# Altium schematic symbol library Analog_ADC.SchLib: 158 symbols (part 1 of 3)
Pins are listed as number, name and electrical type; pins without a type are passive.

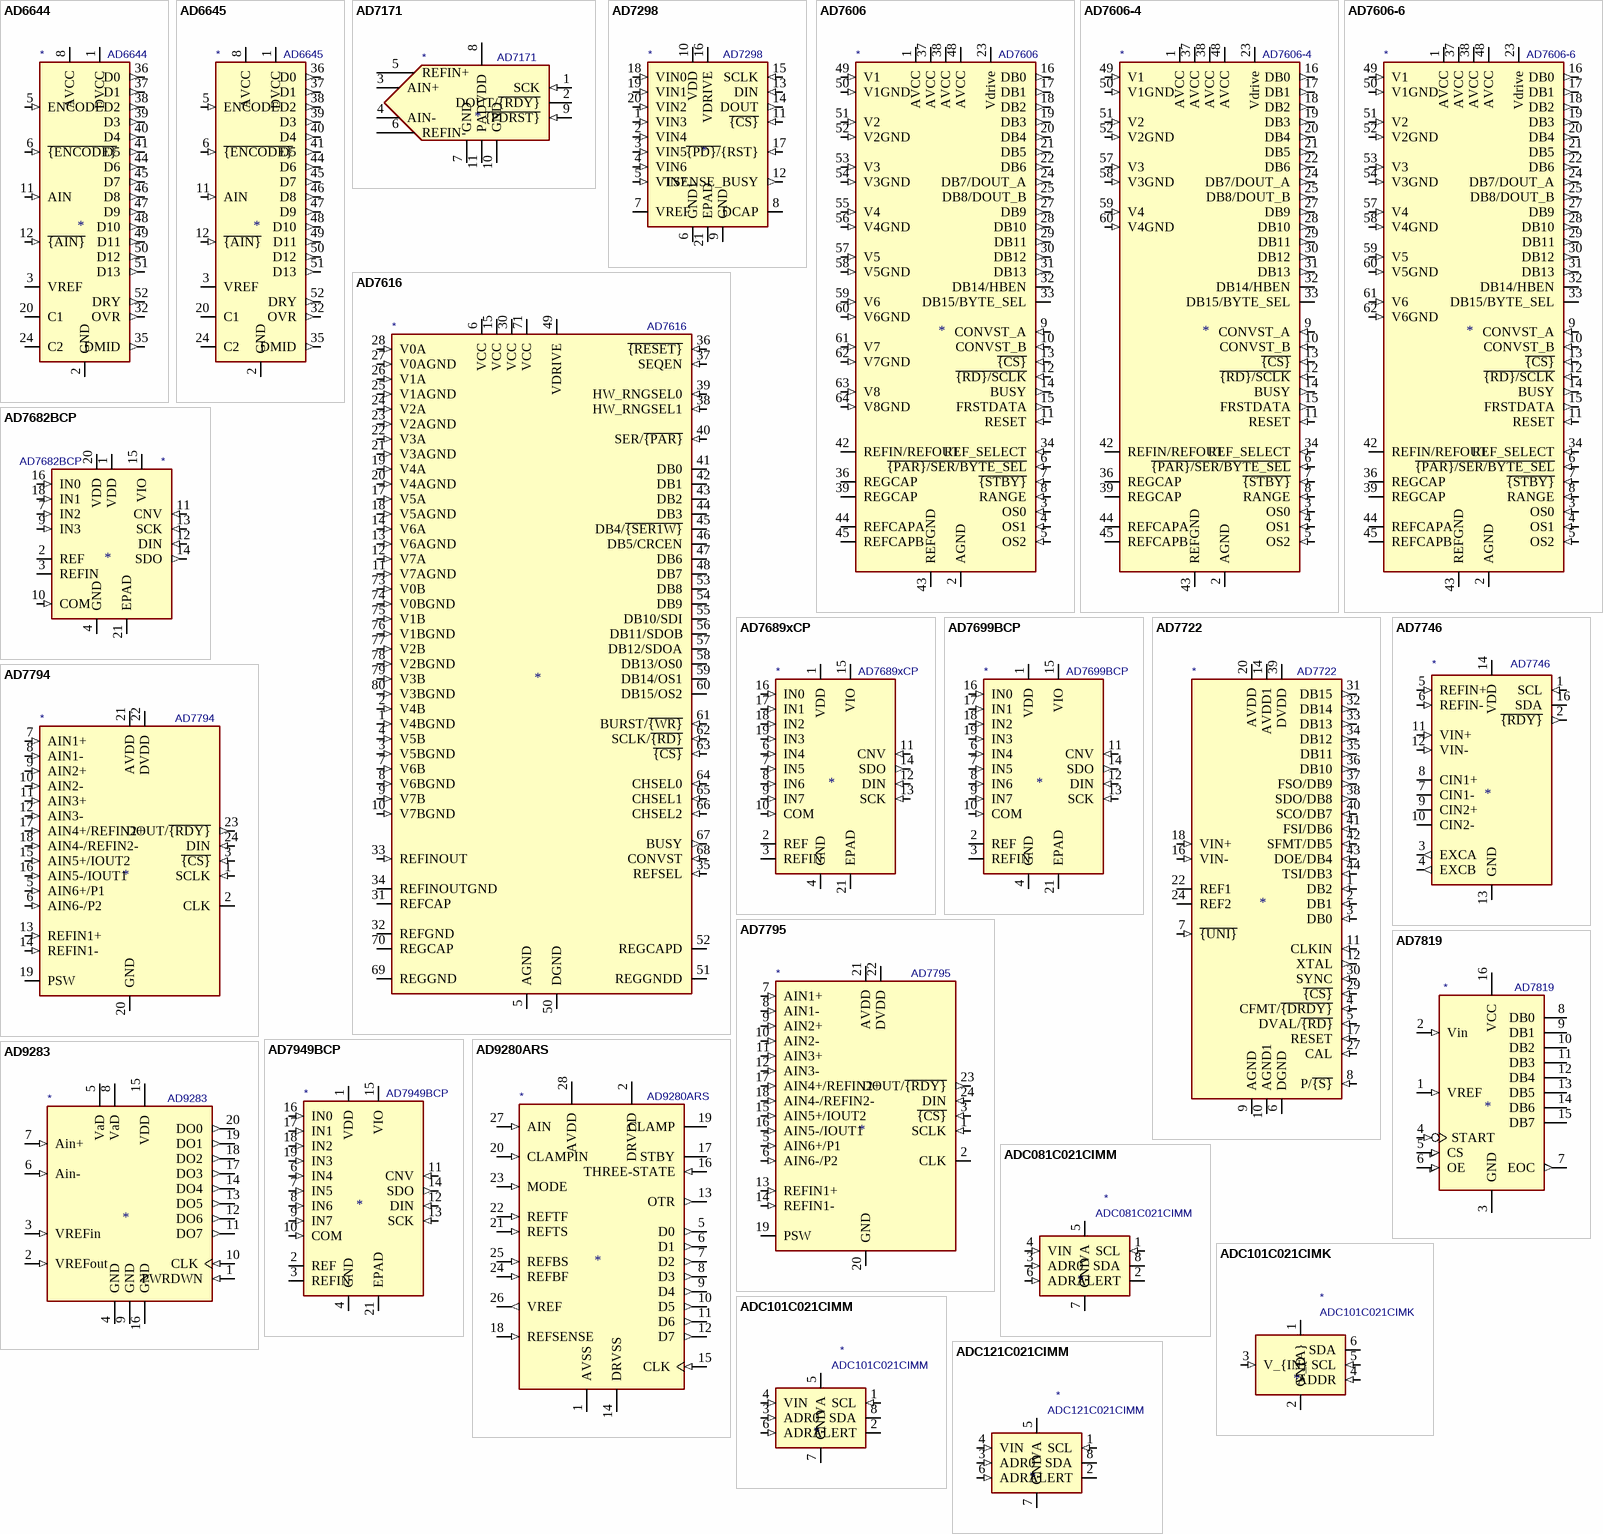
[diagram p0: symbols AD6644 to ADC121C021CIMM]

## AD6644
designator *  value AD6644
ki_keywords: ADC differential analog digital converter; ki_description: A/D Converter, 14-Bit, 40 MSPS/65 MSPS, TQFP-52; ki_fp_filters: TQFP*1EP*10x10mm*P0.65mm*; Footprint: Package_QFP:TQFP-52-1EP_10x10mm_P0.65mm_EP6.5x6.5mm; Supplier: https://www.analog.com/media/en/technical-documentation/data-sheets/AD6644.pdf
footprint TQFP-52-1EP_10x10mm_P0.65mm_EP6.5x6.5mm
pins: 1 DVCC (power), 2 GND (power), 3 VREF, 4 GND hidden, 5 ENCODE (in), 6 ~{{ENCODE}} (in), 7 GND hidden, 8 AVCC (power), 9 AVCC hidden, 10 GND hidden, 11 AIN (in), 12 ~{{AIN}} (in), 13 GND hidden, 14 AVCC hidden, 15 GND hidden, 16 AVCC hidden, 17 GND hidden, 18 AVCC hidden, 19 GND hidden, 20 C1, 21 GND hidden, 22 AVCC hidden, 23 GND hidden, 24 C2, 25 GND hidden, 26 AVCC hidden, 27 GND hidden, 28 AVCC hidden, 29 GND hidden, 30 AVCC hidden, 31 DNC (in) hidden, 32 OVR (out), 33 DVCC hidden, 34 GND hidden, 35 DMID (out), 36 D0 (out), 37 D1 (out), 38 D2 (out), 39 D3 (out), 40 D4 (out), 41 D5 (out), 42 GND hidden, 43 DVCC hidden, 44 D6 (out), 45 D7 (out), 46 D8 (out), 47 D9 (out), 48 D10 (out), 49 D11 (out), 50 D12 (out), 51 D13 (out), 52 DRY (out), 53 GND hidden

## AD6645
designator *  value AD6645
ki_keywords: ADC differential analog digital converter; ki_description: A/D Converter, 14-Bit, 80 MSPS/105 MSPS, TQFP-52; ki_fp_filters: TQFP*1EP*10x10mm*P0.65mm*; Footprint: Package_QFP:TQFP-52-1EP_10x10mm_P0.65mm_EP6.5x6.5mm; Supplier: https://www.analog.com/media/en/technical-documentation/data-sheets/AD6645.pdf
footprint TQFP-52-1EP_10x10mm_P0.65mm_EP6.5x6.5mm
pins: 1 DVCC (power), 2 GND (power), 3 VREF, 4 GND hidden, 5 ENCODE (in), 6 ~{{ENCODE}} (in), 7 GND hidden, 8 AVCC (power), 9 AVCC hidden, 10 GND hidden, 11 AIN (in), 12 ~{{AIN}} (in), 13 GND hidden, 14 AVCC hidden, 15 GND hidden, 16 AVCC hidden, 17 GND hidden, 18 AVCC hidden, 19 GND hidden, 20 C1, 21 GND hidden, 22 AVCC hidden, 23 GND hidden, 24 C2, 25 GND hidden, 26 AVCC hidden, 27 GND hidden, 28 AVCC hidden, 29 GND hidden, 30 AVCC hidden, 31 DNC (in) hidden, 32 OVR (out), 33 DVCC hidden, 34 GND hidden, 35 DMID (out), 36 D0 (out), 37 D1 (out), 38 D2 (out), 39 D3 (out), 40 D4 (out), 41 D5 (out), 42 GND hidden, 43 DVCC hidden, 44 D6 (out), 45 D7 (out), 46 D8 (out), 47 D9 (out), 48 D10 (out), 49 D11 (out), 50 D12 (out), 51 D13 (out), 52 DRY (out), 53 GND hidden

## AD7171
designator *  value AD7171
ki_keywords: sigma delta adc spi 1ch; ki_description: Single channel Analog to Digital Converter, 16-bit, differential input, 125Hz, SPI interface; ki_fp_filters: DFN*1EP*3x3mm*P0.5mm*EP1.55x2.48mm*; Footprint: Package_DFN_QFN:DFN-10-1EP_3x3mm_P0.5mm_EP1.55x2.48mm; Supplier: https://www.analog.com/media/en/technical-documentation/data-sheets/AD7171.pdf
footprint DFN-10-1EP_3x3mm_P0.5mm_EP1.55x2.48mm
pins: 1 SCK (in), 2 DOUT/~{{RDY}} (hiz), 3 AIN+, 4 AIN-, 5 REFIN+, 6 REFIN-, 7 GND (power), 8 VDD (power), 9 ~{{PDRST}} (in), 10 GND (power), 11 PAD (power)

## AD7298
designator *  value AD7298
ki_keywords: ADC, 3.3V, SPI; ki_description: 8 channel, 1MSPS, 12-bit SAR ADC with Temperature Sensor, LFCSP-20; ki_fp_filters: LFCSP*1EP*4x4mm*P0.5mm*; Footprint: Package_CSP:LFCSP-20-1EP_4x4mm_P0.5mm_EP2.6x2.6mm_ThermalVias; Supplier: https://www.analog.com/media/en/technical-documentation/data-sheets/AD7298.pdf
footprint LFCSP-20-1EP_4x4mm_P0.5mm_EP2.6x2.6mm_ThermalVias
pins: 1 VIN3 (in), 2 VIN4 (in), 3 VIN5 (in), 4 VIN6 (in), 5 VIN7 (in), 6 GND1 (power), 7 VREF, 8 DCAP, 9 GND (power), 10 VDD (power), 11 ~{{CS}} (in), 12 TSENSE_BUSY (out), 13 DIN (in), 14 DOUT (out), 15 SCLK (in), 16 VDRIVE (power), 17 ~{{PD}/}{RST} (in), 18 VIN0 (in), 19 VIN1 (in), 20 VIN2 (in), 21 EPAD (power)

## AD7606
designator *  value AD7606
ki_keywords: 16bit DAS ADC 8channel 200KSPS; ki_description: 8-Channel DAS with 16-Bit, Bipolar Input, Simultaneous Sampling ADC, LQFP-64; ki_fp_filters: LQFP*10x10mm*P0.5mm*; Footprint: Package_QFP:LQFP-64_10x10mm_P0.5mm; Supplier: https://www.analog.com/media/en/technical-documentation/data-sheets/ad7606_7606-6_7606-4.pdf
footprint LQFP-64_10x10mm_P0.5mm
pins: 1 AVCC (power), 2 AGND (power), 3 OS0 (in), 4 OS1 (in), 5 OS2 (in), 6 ~{{PAR}/SER/BYTE_SEL} (in), 7 ~{{STBY}} (in), 8 RANGE (in), 9 CONVST_A (in), 10 CONVST_B (in), 11 RESET (in), 12 ~{{RD}/SCLK} (in), 13 ~{{CS}} (in), 14 BUSY (out), 15 FRSTDATA (out), 16 DB0 (out), 17 DB1 (out), 18 DB2 (out), 19 DB3 (out), 20 DB4 (out), 21 DB5 (out), 22 DB6 (out), 23 Vdrive (power), 24 DB7/DOUT_A (out), 25 DB8/DOUT_B (out), 26 AGND hidden, 27 DB9 (out), 28 DB10 (out), 29 DB11 (out), 30 DB12 (out), 31 DB13 (out), 32 DB14/HBEN (io), 33 DB15/BYTE_SEL (io), 34 REF_SELECT (in), 35 AGND hidden, 36 REGCAP, 37 AVCC (power), 38 AVCC (power), 39 REGCAP, 40 AGND hidden, 41 AGND hidden, 42 REFIN/REFOUT, 43 REFGND (power), 44 REFCAPA, 45 REFCAPB, 46 REFGND hidden, 47 AGND hidden, 48 AVCC (power), 49 V1 (in), 50 V1GND (in), 51 V2 (in), 52 V2GND (in), 53 V3 (in), 54 V3GND (in), 55 V4 (in), 56 V4GND (in), 57 V5 (in), 58 V5GND (in), 59 V6 (in), 60 V6GND (in), 61 V7 (in), 62 V7GND (in), 63 V8 (in), 64 V8GND (in)

## AD7606-4
designator *  value AD7606-4
ki_keywords: 16bit DAS ADC 4channel 200KSPS; ki_description: 4-Channel DAS with 16-Bit, Bipolar Input, Simultaneous Sampling ADC, LQFP-64; ki_fp_filters: LQFP*10x10mm*P0.5mm*; Footprint: Package_QFP:LQFP-64_10x10mm_P0.5mm; Supplier: https://www.analog.com/media/en/technical-documentation/data-sheets/ad7606_7606-6_7606-4.pdf
footprint LQFP-64_10x10mm_P0.5mm
pins: 1 AVCC (power), 2 AGND (power), 3 OS0 (in), 4 OS1 (in), 5 OS2 (in), 6 ~{{PAR}/SER/BYTE_SEL} (in), 7 ~{{STBY}} (in), 8 RANGE (in), 9 CONVST_A (in), 10 CONVST_B (in), 11 RESET (in), 12 ~{{RD}/SCLK} (in), 13 ~{{CS}} (in), 14 BUSY (out), 15 FRSTDATA (out), 16 DB0 (out), 17 DB1 (out), 18 DB2 (out), 19 DB3 (out), 20 DB4 (out), 21 DB5 (out), 22 DB6 (out), 23 Vdrive (power), 24 DB7/DOUT_A (out), 25 DB8/DOUT_B (out), 26 AGND hidden, 27 DB9 (out), 28 DB10 (out), 29 DB11 (out), 30 DB12 (out), 31 DB13 (out), 32 DB14/HBEN (io), 33 DB15/BYTE_SEL (io), 34 REF_SELECT (in), 35 AGND hidden, 36 REGCAP, 37 AVCC (power), 38 AVCC (power), 39 REGCAP, 40 AGND hidden, 41 AGND hidden, 42 REFIN/REFOUT, 43 REFGND (power), 44 REFCAPA, 45 REFCAPB, 46 REFGND hidden, 47 AGND hidden, 48 AVCC (power), 49 V1 (in), 50 V1GND (in), 51 V2 (in), 52 V2GND (in), 53 AGND hidden, 54 AGND hidden, 55 AGND hidden, 56 AGND hidden, 57 V3 (in), 58 V3GND (in), 59 V4 (in), 60 V4GND (in), 61 AGND hidden, 62 AGND hidden, 63 AGND hidden, 64 AGND hidden

## AD7606-6
designator *  value AD7606-6
ki_keywords: 16bit DAS ADC 6channel 200KSPS; ki_description: 6-Channel DAS with 16-Bit, Bipolar Input, Simultaneous Sampling ADC, LQFP-64; ki_fp_filters: LQFP*10x10mm*P0.5mm*; Footprint: Package_QFP:LQFP-64_10x10mm_P0.5mm; Supplier: https://www.analog.com/media/en/technical-documentation/data-sheets/ad7606_7606-6_7606-4.pdf
footprint LQFP-64_10x10mm_P0.5mm
pins: 1 AVCC (power), 2 AGND (power), 3 OS0 (in), 4 OS1 (in), 5 OS2 (in), 6 ~{{PAR}/SER/BYTE_SEL} (in), 7 ~{{STBY}} (in), 8 RANGE (in), 9 CONVST_A (in), 10 CONVST_B (in), 11 RESET (in), 12 ~{{RD}/SCLK} (in), 13 ~{{CS}} (in), 14 BUSY (out), 15 FRSTDATA (out), 16 DB0 (out), 17 DB1 (out), 18 DB2 (out), 19 DB3 (out), 20 DB4 (out), 21 DB5 (out), 22 DB6 (out), 23 Vdrive (power), 24 DB7/DOUT_A (out), 25 DB8/DOUT_B (out), 26 AGND hidden, 27 DB9 (out), 28 DB10 (out), 29 DB11 (out), 30 DB12 (out), 31 DB13 (out), 32 DB14/HBEN (io), 33 DB15/BYTE_SEL (io), 34 REF_SELECT (in), 35 AGND hidden, 36 REGCAP, 37 AVCC (power), 38 AVCC (power), 39 REGCAP, 40 AGND hidden, 41 AGND hidden, 42 REFIN/REFOUT, 43 REFGND (power), 44 REFCAPA, 45 REFCAPB, 46 REFGND hidden, 47 AGND hidden, 48 AVCC (power), 49 V1 (in), 50 V1GND (in), 51 V2 (in), 52 V2GND (in), 53 V3 (in), 54 V3GND (in), 55 AGND hidden, 56 AGND hidden, 57 V4 (in), 58 V4GND (in), 59 V5 (in), 60 V5GND (in), 61 V6 (in), 62 V6GND (in), 63 AGND hidden, 64 AGND hidden

## AD7616
designator *  value AD7616
ki_keywords: 16bit DAS ADC 16channel 1MSPS; ki_description: 16-Channel DAS with 16-Bit, Bipolar Input, Dual Simultaneous Sampling ADC, 2x1MSPS ADC, Serial and parallel IO, LQFP-80; ki_fp_filters: LQFP*14x14mm*P0.65mm*; Footprint: Package_QFP:LQFP-80_14x14mm_P0.65mm; Supplier: https://www.analog.com/media/en/technical-documentation/data-sheets/AD7616.pdf
footprint LQFP-80_14x14mm_P0.65mm
pins: 1 V4BGND (in), 2 V4B (in), 3 V5BGND (in), 4 V5B (in), 5 AGND (power), 6 VCC (power), 7 V6B (in), 8 V6BGND (in), 9 V7B (in), 10 V7BGND (in), 11 V7AGND (in), 12 V7A (in), 13 V6AGND (in), 14 V6A (in), 15 VCC (power), 16 AGND hidden, 17 V5A (in), 18 V5AGND (in), 19 V4A (in), 20 V4AGND (in), 21 V3AGND (in), 22 V3A (in), 23 V2AGND (in), 24 V2A (in), 25 V1AGND (in), 26 V1A (in), 27 V0AGND (in), 28 V0A (in), 29 AGND hidden, 30 VCC (power), 31 REFCAP, 32 REFGND (power), 33 REFINOUT (in), 34 REFINOUTGND (power), 35 REFSEL (in), 36 ~{{RESET}} (in), 37 SEQEN (in), 38 HW_RNGSEL1 (in), 39 HW_RNGSEL0 (in), 40 SER/~{{PAR}} (in), 41 DB0 (io), 42 DB1 (io), 43 DB2 (io), 44 DB3 (io), 45 DB4/~{{SER1W}} (io), 46 DB5/CRCEN (io), 47 DB6 (io), 48 DB7 (io), 49 VDRIVE (power), 50 DGND (power), 51 REGGNDD (power), 52 REGCAPD, 53 DB8 (io), 54 DB9 (io), 55 DB10/SDI (io), 56 DB11/SDOB (io), 57 DB12/SDOA (io), 58 DB13/OS0 (io), 59 DB14/OS1 (io), 60 DB15/OS2 (io), 61 BURST/~{{WR}} (in), 62 SCLK/~{{RD}} (in), 63 ~{{CS}} (in), 64 CHSEL0 (in), 65 CHSEL1 (in), 66 CHSEL2 (in), 67 BUSY (out), 68 CONVST (in), 69 REGGND (power), 70 REGCAP, 71 VCC (power), 72 AGND hidden, 73 V0B (in), 74 V0BGND (in), 75 V1B (in), 76 V1BGND (in), 77 V2B (in), 78 V2BGND (in), 79 V3B (in), 80 V3BGND (in)

## AD7682BCP
designator *  value AD7682BCP
ki_keywords: 16-Bit 4-Channel 250kSPS; ki_description: 16-bit, 4-Channel, 250kSPS, PulSAR ADC, Bipolar-Unipolar, LFCSP-20; ki_fp_filters: LFCSP*1EP*4x4mm*P0.5mm*; Footprint: Package_CSP:LFCSP-20-1EP_4x4mm_P0.5mm_EP2.5x2.5mm; Supplier: https://www.analog.com/media/en/technical-documentation/data-sheets/AD7682_7689.pdf
footprint LFCSP-20-1EP_4x4mm_P0.5mm_EP2.5x2.5mm
pins: 1 VDD (power), 2 REF, 3 REFIN, 4 GND (power), 5 GND hidden, 6 NC (in) hidden, 7 IN2 (in), 8 NC (in) hidden, 9 IN3 (in), 10 COM (in), 11 CNV (in), 12 DIN (in), 13 SCK (in), 14 SDO (out), 15 VIO (power), 16 IN0 (in), 17 NC (in) hidden, 18 IN1 (in), 19 NC (in) hidden, 20 VDD (power), 21 EPAD

## AD7689xCP
designator *  value AD7689xCP
ki_keywords: ADC, SPI; ki_description: 16-Bit, 8-Channel, 250 kSPS PulSAR ADC, LFSCP-20; ki_fp_filters: LFCSP*1EP*4x4mm*P0.5mm*; Footprint: Package_CSP:LFCSP-20-1EP_4x4mm_P0.5mm_EP2.5x2.5mm; Supplier: https://www.analog.com/media/en/technical-documentation/data-sheets/AD7682_7689.pdf
footprint LFCSP-20-1EP_4x4mm_P0.5mm_EP2.5x2.5mm
pins: 1 VDD (power), 2 REF, 3 REFIN, 4 GND (power), 5 GND hidden, 6 IN4 (in), 7 IN5 (in), 8 IN6 (in), 9 IN7 (in), 10 COM (in), 11 CNV (in), 12 DIN (in), 13 SCK (in), 14 SDO (out), 15 VIO (power), 16 IN0 (in), 17 IN1 (in), 18 IN2 (in), 19 IN3 (in), 20 VDD hidden, 21 EPAD (power)

## AD7699BCP
designator *  value AD7699BCP
ki_keywords: ADC, SPI; ki_description: 16-Bit, 8-Channel, 500 kSPS PulSAR ADC, LFSCP-20; ki_fp_filters: LFCSP*1EP*4x4mm*P0.5mm*; Footprint: Package_CSP:LFCSP-20-1EP_4x4mm_P0.5mm_EP2.5x2.5mm; Supplier: https://www.analog.com/media/en/technical-documentation/data-sheets/AD7699.pdf
footprint LFCSP-20-1EP_4x4mm_P0.5mm_EP2.5x2.5mm
pins: 1 VDD (power), 2 REF, 3 REFIN, 4 GND (power), 5 GND hidden, 6 IN4 (in), 7 IN5 (in), 8 IN6 (in), 9 IN7 (in), 10 COM (in), 11 CNV (in), 12 DIN (in), 13 SCK (in), 14 SDO (out), 15 VIO (power), 16 IN0 (in), 17 IN1 (in), 18 IN2 (in), 19 IN3 (in), 20 VDD hidden, 21 EPAD (power)

## AD7722
designator *  value AD7722
ki_keywords: adc 1ch 16bit parallel serial; ki_description: 16-Bit, 195 kSPS CMOS, Sigma-Delta ADC, MQFP-44; ki_fp_filters: MQFP*10x10mm*P0.8mm*; Footprint: Package_QFP:MQFP-44_10x10mm_P0.8mm; Supplier: https://www.analog.com/media/en/technical-documentation/data-sheets/AD7722.pdf
footprint MQFP-44_10x10mm_P0.8mm
pins: 1 DB2 (in), 2 DB1 (in), 3 DB0 (in), 4 CFMT/~{{DRDY}} (in), 5 DVAL/~{{RD}} (in), 6 DGND (power), 7 ~{{UNI}} (in), 8 P/~{{S}} (in), 9 AGND (power), 10 AGND1 (power), 11 CLKIN (in), 12 XTAL (out), 13 AGND hidden, 14 AVDD1 (power), 15 AGND hidden, 16 VIN- (in), 17 RESET (in), 18 VIN+ (in), 19 AGND hidden, 20 AVDD (power), 21 AGND hidden, 22 REF1 (power), 23 AVDD hidden, 24 REF2 (power), 25 AGND hidden, 26 AGND hidden, 27 CAL (in), 28 DGND hidden, 29 ~{{CS}} (in), 30 SYNC (in), 31 DB15 (out), 32 DB14 (out), 33 DB13 (out), 34 DB12 (out), 35 DB11 (out), 36 DB10 (out), 37 FSO/DB9 (out), 38 SDO/DB8 (out), 39 DVDD (power), 40 SCO/DB7 (in), 41 FSI/DB6 (in), 42 SFMT/DB5 (in), 43 DOE/DB4 (in), 44 TSI/DB3 (in)

## AD7746
designator *  value AD7746
ki_keywords: adc cdc capacitance; ki_description: 24-bit capacitance-to-digital converter with temperature sensor, TSSOP-16; ki_fp_filters: TSSOP*4.4x5mm*P0.65mm*; Footprint: Package_SO:TSSOP-16_4.4x5mm_P0.65mm; Supplier: https://www.analog.com/media/en/technical-documentation/data-sheets/AD7745_7746.pdf
footprint TSSOP-16_4.4x5mm_P0.65mm
pins: 1 SCL (in), 2 ~{{RDY}} (out), 3 EXCA (out), 4 EXCB (out), 5 REFIN+ (in), 6 REFIN- (in), 7 CIN1-, 8 CIN1+, 9 CIN2+, 10 CIN2-, 11 VIN+ (in), 12 VIN- (in), 13 GND (power), 14 VDD (power), 15 NC (in) hidden, 16 SDA (io)

## AD7794
designator *  value AD7794
ki_keywords: adc 6ch 24bit serial; ki_description: 24-Bit, 6-Channel Sigma-Delta ADC, TSSOP-28; ki_fp_filters: TSSOP*4.4x7.8mm*P0.65mm*; Footprint: Package_SO:TSSOP-24_4.4x7.8mm_P0.65mm; Supplier: https://www.analog.com/media/en/technical-documentation/data-sheets/AD7794_7795.pdf
footprint TSSOP-24_4.4x7.8mm_P0.65mm
pins: 1 SCLK (in), 2 CLK (io), 3 ~{{CS}} (in), 4 NC (in) hidden, 5 AIN6+/P1 (in), 6 AIN6-/P2 (in), 7 AIN1+ (in), 8 AIN1- (in), 9 AIN2+ (in), 10 AIN2- (in), 11 AIN3+ (in), 12 AIN3- (in), 13 REFIN1+ (in), 14 REFIN1- (in), 15 AIN5+/IOUT2 (in), 16 AIN5-/IOUT1 (in), 17 AIN4+/REFIN2+ (in), 18 AIN4-/REFIN2- (in), 19 PSW, 20 GND (power), 21 AVDD (power), 22 DVDD (power), 23 DOUT/~{{RDY}} (out), 24 DIN (in)

## AD7795
designator *  value AD7795
ki_keywords: adc 6ch 16bit serial; ki_description: 16-Bit, 6-Channel Sigma-Delta ADC, TSSOP-28; ki_fp_filters: TSSOP*4.4x7.8mm*P0.65mm*; Footprint: Package_SO:TSSOP-24_4.4x7.8mm_P0.65mm; Supplier: https://www.analog.com/media/en/technical-documentation/data-sheets/AD7794_7795.pdf
footprint TSSOP-24_4.4x7.8mm_P0.65mm
pins: 1 SCLK (in), 2 CLK (io), 3 ~{{CS}} (in), 4 NC (in) hidden, 5 AIN6+/P1 (in), 6 AIN6-/P2 (in), 7 AIN1+ (in), 8 AIN1- (in), 9 AIN2+ (in), 10 AIN2- (in), 11 AIN3+ (in), 12 AIN3- (in), 13 REFIN1+ (in), 14 REFIN1- (in), 15 AIN5+/IOUT2 (in), 16 AIN5-/IOUT1 (in), 17 AIN4+/REFIN2+ (in), 18 AIN4-/REFIN2- (in), 19 PSW, 20 GND (power), 21 AVDD (power), 22 DVDD (power), 23 DOUT/~{{RDY}} (out), 24 DIN (in)

## AD7819
designator *  value AD7819
ki_keywords: CAD; ki_description: Analog to Digital 8 bits converter, PDIP/SOIC/TSSOP-16; Supplier: https://www.analog.com/media/en/technical-documentation/data-sheets/AD7819.pdf
pins: 1 VREF (in), 2 Vin (in), 3 GND (power), 4 START (in), 5 CS (in), 6 OE (in), 7 EOC (out), 8 DB0 (hiz), 9 DB1 (hiz), 10 DB2 (hiz), 11 DB3 (hiz), 12 DB4 (hiz), 13 DB5 (hiz), 14 DB6 (hiz), 15 DB7 (hiz), 16 VCC (power)

## AD7949BCP
designator *  value AD7949BCP
ki_keywords: ADC, SPI; ki_description: 14-Bit, 8-Channel, 250 kSPS PulSAR ADC, LFSCP-20; ki_fp_filters: LFCSP*1EP*4x4mm*P0.5mm*; Footprint: Package_CSP:LFCSP-20-1EP_4x4mm_P0.5mm_EP2.5x2.5mm; Supplier: https://www.analog.com/media/en/technical-documentation/data-sheets/AD7949.pdf
footprint LFCSP-20-1EP_4x4mm_P0.5mm_EP2.5x2.5mm
pins: 1 VDD (power), 2 REF, 3 REFIN, 4 GND (power), 5 GND hidden, 6 IN4 (in), 7 IN5 (in), 8 IN6 (in), 9 IN7 (in), 10 COM (in), 11 CNV (in), 12 DIN (in), 13 SCK (in), 14 SDO (out), 15 VIO (power), 16 IN0 (in), 17 IN1 (in), 18 IN2 (in), 19 IN3 (in), 20 VDD hidden, 21 EPAD (power)

## AD9280ARS
designator *  value AD9280ARS
ki_keywords: ADC CAN VIDEO; ki_description: Video ADC (32 Mhz), SSOP-28; Supplier: https://www.analog.com/media/en/technical-documentation/data-sheets/AD9280.pdf
pins: 1 AVSS (power), 2 DRVDD (power), 5 D0 (out), 6 D1 (out), 7 D2 (out), 8 D3 (out), 9 D4 (out), 10 D5 (out), 11 D6 (out), 12 D7 (out), 13 OTR (out), 14 DRVSS (power), 15 CLK (in), 16 THREE-STATE (in), 17 STBY, 18 REFSENSE (in), 19 CLAMP, 20 CLAMPIN (in), 21 REFTS (in), 22 REFTF (in), 23 MODE (in), 24 REFBF (in), 25 REFBS (in), 26 VREF (out), 27 AIN (in), 28 AVDD (power)

## AD9283
designator *  value AD9283
ki_keywords: ADC; ki_description: ADC 50MHz 8 bits, SSOP-20; Supplier: https://www.analog.com/media/en/technical-documentation/data-sheets/AD9283.pdf
pins: 1 PWRDWN (in), 2 VREFout (in), 3 VREFin (in), 4 GND (power), 5 VaD (power), 6 Ain- (in), 7 Ain+ (in), 8 VaD (power), 9 GND (power), 10 CLK (in), 11 DO7 (out), 12 DO6 (out), 13 DO5 (out), 14 DO4 (out), 15 VDD (power), 16 GND (power), 17 DO3 (out), 18 DO2 (out), 19 DO1 (out), 20 DO0 (out)

## ADC081C021CIMM
designator *  value ADC081C021CIMM
ki_keywords: ADC I2C 8-bit Alert; ki_description: I2C-Compatible, 8-Bit Analog-to-Digital Converter with Alert Function, MSOP-8; ki_fp_filters: MSOP*3x3mm*P0.65mm*; Footprint: Package_SO:MSOP-8_3x3mm_P0.65mm; Supplier: http://www.ti.com/lit/ds/symlink/adc081c021.pdf
footprint MSOP-8_3x3mm_P0.65mm
pins: 1 SCL (in), 2 ALERT (oc), 3 ADR0 (in), 4 VIN (in), 5 VA (power), 6 ADR1 (in), 7 GND (power), 8 SDA (io)

## ADC101C021CIMK
designator *  value ADC101C021CIMK
ki_keywords: adc 10-bit i2c; ki_description: 10-bit I2C ADC, SOT-23; ki_fp_filters: SOT?23*; Footprint: Package_TO_SOT_SMD:SOT-23-6; Supplier: https://www.ti.com/lit/ds/symlink/adc101c021.pdf
footprint SOT-23-6
pins: 1 V_{A} (power), 2 GND (power), 3 V_{IN} (in), 4 ADDR (in), 5 SCL (in), 6 SDA (io)

## ADC101C021CIMM
designator *  value ADC101C021CIMM
ki_keywords: ADC I2C 10-bit Alert; ki_description: I2C-Compatible, 10-Bit Analog-to-Digital Converter with Alert Function, MSOP-8; ki_fp_filters: MSOP*3x3mm*P0.65mm*; Footprint: Package_SO:MSOP-8_3x3mm_P0.65mm; Supplier: http://www.ti.com/lit/ds/symlink/adc101c021.pdf
footprint MSOP-8_3x3mm_P0.65mm
pins: 1 SCL (in), 2 ALERT (oc), 3 ADR0 (in), 4 VIN (in), 5 VA (power), 6 ADR1 (in), 7 GND (power), 8 SDA (io)

## ADC121C021CIMM
designator *  value ADC121C021CIMM
ki_keywords: ADC I2C 12-bit Alert; ki_description: I2C-Compatible, 12-Bit Analog-to-Digital Converter with Alert Function, MSOP-8; ki_fp_filters: MSOP*3x3mm*P0.65mm*; Footprint: Package_SO:MSOP-8_3x3mm_P0.65mm; Supplier: http://www.ti.com/lit/ds/symlink/adc121c021.pdf
footprint MSOP-8_3x3mm_P0.65mm
pins: 1 SCL (in), 2 ALERT (oc), 3 ADR0 (in), 4 VIN (in), 5 VA (power), 6 ADR1 (in), 7 GND (power), 8 SDA (io)

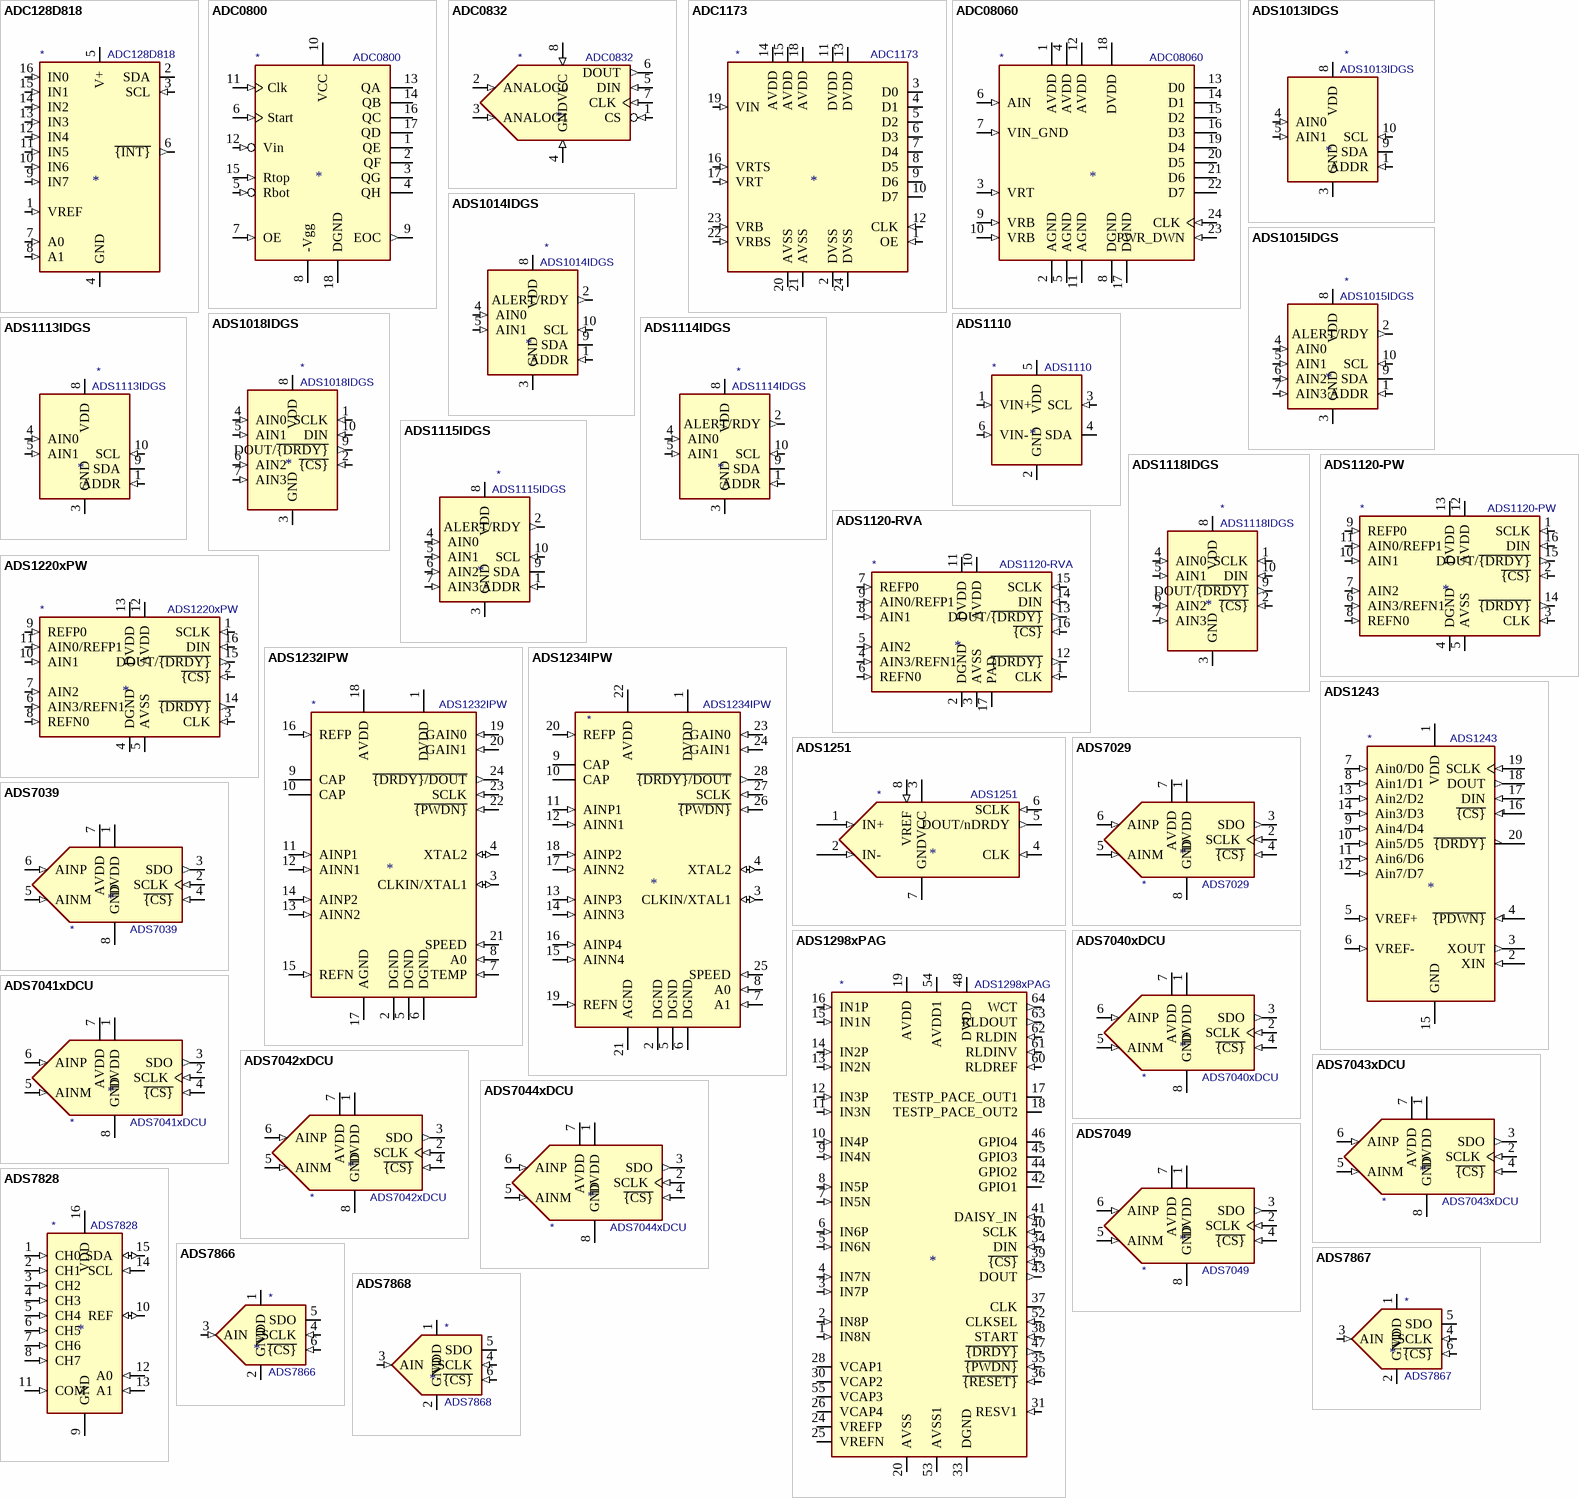
[diagram p1: symbols ADC128D818 to ADS7868]

## ADC128D818
designator *  value ADC128D818
ki_keywords: ADC 8 Channels TSSOP I2C; ki_description: 12-Bit, 8-Channel, ADC System Monitor With Temperature Sensor, I2C Interface, TSSOP-16; ki_fp_filters: TSSOP*4.4x5mm*P0.65mm*; Footprint: Package_SO:TSSOP-16_4.4x5mm_P0.65mm; Supplier: http://www.ti.com/lit/ds/symlink/adc128d818.pdf
footprint TSSOP-16_4.4x5mm_P0.65mm
pins: 1 VREF (in), 2 SDA (io), 3 SCL (in), 4 GND (power), 5 V+ (power), 6 ~{{INT}} (out), 7 A0 (in), 8 A1 (in), 9 IN7 (in), 10 IN6 (in), 11 IN5 (in), 12 IN4 (in), 13 IN3 (in), 14 IN2 (in), 15 IN1 (in), 16 IN0 (in)

## ADC0800
designator *  value ADC0800
ki_keywords: CAD; ki_description: Analog to Digital 8 bits converter, DIP-18 (Hermetic); Supplier: http://www.ti.com/lit/ds/snas562/snas562.pdf
pins: 1 QE (hiz), 2 QF (hiz), 3 QG (hiz), 4 QH (hiz), 5 Rbot (in), 6 Start (in), 7 OE (in), 8 -Vgg (power), 9 EOC (out), 10 VCC (power), 11 Clk (in), 12 Vin (in), 13 QA (hiz), 14 QB (hiz), 15 Rtop (in), 16 QC (hiz), 17 QD (hiz), 18 DGND (power)

## ADC0832
designator *  value ADC0832
ki_keywords: ADC CAN; ki_description: 2 inputs AD Converter (serial output),; Supplier: http://www.ti.com/lit/ds/symlink/adc0831-n.pdf
pins: 1 CS (in), 2 ANALOG0 (in), 3 ANALOG1 (in), 4 GND (in), 5 DIN (in), 6 DOUT (out), 7 CLK (in), 8 VCC (in)

## ADC1173
designator *  value ADC1173
ki_keywords: ADC CAN VIDEO; ki_description: Fast ADC  (15 Mhz), TSSOP-24; Supplier: http://www.ti.com/lit/ds/symlink/adc1173.pdf
pins: 1 OE (in), 2 DVSS (power), 3 D0 (hiz), 4 D1 (hiz), 5 D2 (hiz), 6 D3 (hiz), 7 D4 (hiz), 8 D5 (hiz), 9 D6 (hiz), 10 D7 (hiz), 11 DVDD (power), 12 CLK (in), 13 DVDD (power), 14 AVDD (power), 15 AVDD (power), 16 VRTS (in), 17 VRT (in), 18 AVDD (power), 19 VIN (in), 20 AVSS (power), 21 AVSS (power), 22 VRBS (in), 23 VRB (in), 24 DVSS (power)

## ADC08060
designator *  value ADC08060
ki_keywords: ADC CAN VIDEO; ki_description: Fast ADC  (20 .. 60 Mhz), TSSOP-24; Supplier: http://www.ti.com/lit/ds/symlink/adc08060.pdf
pins: 1 AVDD (power), 2 AGND (power), 3 VRT (in), 4 AVDD (power), 5 AGND (power), 6 AIN (in), 7 VIN_GND (in), 8 DGND (power), 9 VRB (in), 10 VRB (in), 11 AGND (power), 12 AVDD (power), 13 D0 (hiz), 14 D1 (hiz), 15 D2 (hiz), 16 D3 (hiz), 17 DGND (power), 18 DVDD (power), 19 D4 (hiz), 20 D5 (hiz), 21 D6 (hiz), 22 D7 (hiz), 23 PWR_DWN (in), 24 CLK (in)

## ADS1013IDGS
designator *  value ADS1013IDGS
ki_keywords: 12 bit single channel I2C ADC; ki_description: Ultra-Small, Low-Power, I2C-Compatible, 3.3-kSPS, 12-Bit ADCs With Internal Reference and Oscillator, VSSOP-10; ki_fp_filters: TSSOP*3x3mm*P0.5mm*; Footprint: Package_SO:TSSOP-10_3x3mm_P0.5mm; Supplier: http://www.ti.com/lit/ds/symlink/ads1015.pdf
footprint TSSOP-10_3x3mm_P0.5mm
pins: 1 ADDR (in), 2 (in) hidden, 3 GND (power), 4 AIN0 (in), 5 AIN1 (in), 6 (in) hidden, 7 (in) hidden, 8 VDD (power), 9 SDA (io), 10 SCL (in)

## ADS1014IDGS
designator *  value ADS1014IDGS
ki_keywords: 12 bit single channel I2C ADC; ki_description: Ultra-Small, Low-Power, I2C-Compatible, 3.3-kSPS, 12-Bit ADCs With Internal Reference, Oscillator, and Programmable Comparator, VSSOP-10; ki_fp_filters: TSSOP*3x3mm*P0.5mm*; Footprint: Package_SO:TSSOP-10_3x3mm_P0.5mm; Supplier: http://www.ti.com/lit/ds/symlink/ads1015.pdf
footprint TSSOP-10_3x3mm_P0.5mm
pins: 1 ADDR (in), 2 ALERT/RDY (out), 3 GND (power), 4 AIN0 (in), 5 AIN1 (in), 6 (in) hidden, 7 (in) hidden, 8 VDD (power), 9 SDA (io), 10 SCL (in)

## ADS1015IDGS
designator *  value ADS1015IDGS
ki_keywords: 12 bit 4 channel I2C ADC; ki_description: Ultra-Small, Low-Power, I2C-Compatible, 3.3-kSPS, 12-Bit ADCs With Internal Reference, Oscillator, and Programmable Comparator, VSSOP-10; ki_fp_filters: TSSOP*3x3mm*P0.5mm*; Footprint: Package_SO:TSSOP-10_3x3mm_P0.5mm; Supplier: http://www.ti.com/lit/ds/symlink/ads1015.pdf
footprint TSSOP-10_3x3mm_P0.5mm
pins: 1 ADDR (in), 2 ALERT/RDY (out), 3 GND (power), 4 AIN0 (in), 5 AIN1 (in), 6 AIN2 (in), 7 AIN3 (in), 8 VDD (power), 9 SDA (io), 10 SCL (in)

## ADS1018IDGS
designator *  value ADS1018IDGS
ki_keywords: 12 bit 4 channel SPI ADC; ki_description: Ultrasmall, Low-Power, SPI-Compatible, 12-Bit, Analog-to-Digital Converter With Internal Reference and Temperature Sensor, VSSOP-10; ki_fp_filters: TSSOP*3x3mm*P0.5mm*; Supplier: http://www.ti.com/lit/ds/symlink/ads1018.pdf
pins: 1 SCLK (in), 2 ~{{CS}} (in), 3 GND (power), 4 AIN0 (in), 5 AIN1 (in), 6 AIN2 (in), 7 AIN3 (in), 8 VDD (power), 9 DOUT/~{{DRDY}} (out), 10 DIN (in)

## ADS1110
designator *  value ADS1110
ki_keywords: 16 Bit Analog to digital converter ADC; ki_description: 16 Bit Analog to Digital converter with on board reference; ki_fp_filters: SOT?23*; Footprint: Package_TO_SOT_SMD:SOT-23-6; Supplier: http://www.ti.com/lit/ds/symlink/ads1110.pdf
footprint SOT-23-6
pins: 1 VIN+ (in), 2 GND (power), 3 SCL (in), 4 SDA (io), 5 VDD (power), 6 VIN- (in)

## ADS1113IDGS
designator *  value ADS1113IDGS
ki_keywords: 16 bit single channel I2C ADC; ki_description: Ultra-Small, Low-Power, I2C-Compatible, 860-SPS, 16-Bit ADCs With Internal Reference and Oscillator, VSSOP-10; ki_fp_filters: TSSOP*3x3mm*P0.5mm*; Footprint: Package_SO:TSSOP-10_3x3mm_P0.5mm; Supplier: http://www.ti.com/lit/ds/symlink/ads1113.pdf
footprint TSSOP-10_3x3mm_P0.5mm
pins: 1 ADDR (in), 2 (in) hidden, 3 GND (power), 4 AIN0 (in), 5 AIN1 (in), 6 (in) hidden, 7 (in) hidden, 8 VDD (power), 9 SDA (io), 10 SCL (in)

## ADS1114IDGS
designator *  value ADS1114IDGS
ki_keywords: 16 bit single channel I2C ADC; ki_description: Ultra-Small, Low-Power, I2C-Compatible, 860-SPS, 16-Bit ADCs With Internal Reference, Oscillator, and Programmable Comparator, VSSOP-10; ki_fp_filters: TSSOP*3x3mm*P0.5mm*; Footprint: Package_SO:TSSOP-10_3x3mm_P0.5mm; Supplier: http://www.ti.com/lit/ds/symlink/ads1113.pdf
footprint TSSOP-10_3x3mm_P0.5mm
pins: 1 ADDR (in), 2 ALERT/RDY (out), 3 GND (power), 4 AIN0 (in), 5 AIN1 (in), 6 (in) hidden, 7 (in) hidden, 8 VDD (power), 9 SDA (io), 10 SCL (in)

## ADS1115IDGS
designator *  value ADS1115IDGS
ki_keywords: 16 bit 4 channel I2C ADC; ki_description: Ultra-Small, Low-Power, I2C-Compatible, 860-SPS, 16-Bit ADCs With Internal Reference, Oscillator, and Programmable Comparator, VSSOP-10; ki_fp_filters: TSSOP*3x3mm*P0.5mm*; Footprint: Package_SO:TSSOP-10_3x3mm_P0.5mm; Supplier: http://www.ti.com/lit/ds/symlink/ads1113.pdf
footprint TSSOP-10_3x3mm_P0.5mm
pins: 1 ADDR (in), 2 ALERT/RDY (out), 3 GND (power), 4 AIN0 (in), 5 AIN1 (in), 6 AIN2 (in), 7 AIN3 (in), 8 VDD (power), 9 SDA (io), 10 SCL (in)

## ADS1118IDGS
designator *  value ADS1118IDGS
ki_keywords: 16 bit 4 channel SPI ADC; ki_description: Ultrasmall, Low-Power, SPI-Compatible, 16-Bit Analog-to-Digital Converter with Internal Reference and Temperature Sensor, VSSOP-10; ki_fp_filters: TSSOP*3x3mm*P0.5mm*; Supplier: http://www.ti.com/lit/ds/symlink/ads1118.pdf
pins: 1 SCLK (in), 2 ~{{CS}} (in), 3 GND (power), 4 AIN0 (in), 5 AIN1 (in), 6 AIN2 (in), 7 AIN3 (in), 8 VDD (power), 9 DOUT/~{{DRDY}} (out), 10 DIN (in)

## ADS1120-PW
designator *  value ADS1120-PW
ki_keywords: adc spi; ki_description: Low-power, quad-input, 16-bit analog to digital converter, integrated temperature sensor, SPI interface, TSSOP-16 package; ki_fp_filters: *TSSOP*4.4x5mm*P0.65mm*; Footprint: Package_SO:TSSOP-16_4.4x5mm_P0.65mm; Supplier: http://www.ti.com/lit/ds/symlink/ads1120.pdf
footprint TSSOP-16_4.4x5mm_P0.65mm
pins: 1 SCLK (in), 2 ~{{CS}} (in), 3 CLK (in), 4 DGND (power), 5 AVSS (power), 6 AIN3/REFN1 (in), 7 AIN2 (in), 8 REFN0 (in), 9 REFP0 (in), 10 AIN1 (in), 11 AIN0/REFP1 (in), 12 AVDD (power), 13 DVDD (power), 14 ~{{DRDY}} (out), 15 DOUT/~{{DRDY}} (out), 16 DIN (in)

## ADS1120-RVA
designator *  value ADS1120-RVA
ki_keywords: adc spi; ki_description: Low-power, quad-input, 16-bit analog to digital converter, integrated temperature sensor, SPI interface, QFN-16 package; ki_fp_filters: QFN*3.5x3.5mm*P0.50mm*; Supplier: http://www.ti.com/lit/ds/symlink/ads1120.pdf
pins: 1 CLK (in), 2 DGND (power), 3 AVSS (power), 4 AIN3/REFN1 (in), 5 AIN2 (in), 6 REFN0 (in), 7 REFP0 (in), 8 AIN1 (in), 9 AIN0/REFP1 (in), 10 AVDD (power), 11 DVDD (power), 12 ~{{DRDY}} (out), 13 DOUT/~{{DRDY}} (out), 14 DIN (in), 15 SCLK (in), 16 ~{{CS}} (in), 17 PAD

## ADS1220xPW
designator *  value ADS1220xPW
ki_keywords: adc spi; ki_description: Low-power, quad-input, 24-bit analog to digital converter, integrated temperature sensor, SPI interface, TSSOP-16 package; ki_fp_filters: *TSSOP*4.4x5mm*P0.65mm*; Footprint: Package_SO:TSSOP-16_4.4x5mm_P0.65mm; Supplier: http://www.ti.com/lit/ds/symlink/ads1220.pdf
footprint TSSOP-16_4.4x5mm_P0.65mm
pins: 1 SCLK (in), 2 ~{{CS}} (in), 3 CLK (in), 4 DGND (power), 5 AVSS (power), 6 AIN3/REFN1 (in), 7 AIN2 (in), 8 REFN0 (in), 9 REFP0 (in), 10 AIN1 (in), 11 AIN0/REFP1 (in), 12 AVDD (power), 13 DVDD (power), 14 ~{{DRDY}} (out), 15 DOUT/~{{DRDY}} (out), 16 DIN (in)

## ADS1232IPW
designator *  value ADS1232IPW
ki_keywords: ADC 24bit Sensors Dual Channel; ki_description: Single Bridge 24bit ADC for Sensors, TSSOP-24; ki_fp_filters: TSSOP*; Supplier: http://www.ti.com/lit/ds/symlink/ads1232.pdf
pins: 1 DVDD (power), 2 DGND (power), 3 CLKIN/XTAL1 (io), 4 XTAL2 (io), 5 DGND (power), 6 DGND (power), 7 TEMP (in), 8 A0 (in), 9 CAP, 10 CAP, 11 AINP1 (in), 12 AINN1 (in), 13 AINN2 (in), 14 AINP2 (in), 15 REFN (in), 16 REFP (in), 17 AGND (power), 18 AVDD (power), 19 GAIN0 (in), 20 GAIN1 (in), 21 SPEED (in), 22 ~{{PWDN}} (in), 23 SCLK (in), 24 ~{{DRDY}/DOUT} (out)

## ADS1234IPW
designator *  value ADS1234IPW
ki_keywords: ADC 24bit Sensors Quad Channel; ki_description: Dual Bridge 24bit ADC for Sensors, TSSOP-28; ki_fp_filters: TSSOP*; Supplier: http://www.ti.com/lit/ds/symlink/ads1232.pdf
pins: 1 DVDD (power), 2 DGND (power), 3 CLKIN/XTAL1 (io), 4 XTAL2 (io), 5 DGND (power), 6 DGND (power), 7 A1 (in), 8 A0 (in), 9 CAP, 10 CAP, 11 AINP1 (in), 12 AINN1 (in), 13 AINP3 (in), 14 AINN3 (in), 15 AINN4 (in), 16 AINP4 (in), 17 AINN2 (in), 18 AINP2 (in), 19 REFN (in), 20 REFP (in), 21 AGND (power), 22 AVDD (power), 23 GAIN0 (in), 24 GAIN1 (in), 25 SPEED (in), 26 ~{{PWDN}} (in), 27 SCLK (in), 28 ~{{DRDY}/DOUT} (out)

## ADS1243
designator *  value ADS1243
ki_keywords: 24bit ADC 8 Channels PGA SPI; ki_description: 24-bit ADC, 8 Channels, SPI compatible, PGA 1 to 128, TSSOP-20; ki_fp_filters: TSSOP*4.4x6.5mm*P0.65mm*; Footprint: Package_SO:TSSOP-20_4.4x6.5mm_P0.65mm; Supplier: http://www.ti.com/lit/ds/symlink/ads1243.pdf
footprint TSSOP-20_4.4x6.5mm_P0.65mm
pins: 1 VDD (power), 2 XIN (in), 3 XOUT (out), 4 ~{{PDWN}} (in), 5 VREF+ (in), 6 VREF- (in), 7 Ain0/D0 (in), 8 Ain1/D1 (in), 9 Ain4/D4 (in), 10 Ain5/D5 (in), 11 Ain6/D6 (in), 12 Ain7/D7 (in), 13 Ain2/D2 (in), 14 Ain3/D3 (in), 15 GND (power), 16 ~{{CS}} (in), 17 DIN (in), 18 DOUT (out), 19 SCLK (in), 20 ~{{DRDY}} (oc)

## ADS1251
designator *  value ADS1251
ki_keywords: delta-sigma adc low-power; ki_description: Single channel 24-bit Analog to Digital Converter, 5V supply, differential input, 20kHz, 2-wire serial interface, SOIC-8; ki_fp_filters: SOIC*; Footprint: Package_SO:SOIC-8_3.9x4.9mm_P1.27mm; Supplier: http://www.ti.com/lit/ds/symlink/ads1251.pdf
footprint SOIC-8_3.9x4.9mm_P1.27mm
pins: 1 IN+ (in), 2 IN- (in), 3 VCC (power), 4 CLK (in), 5 DOUT/nDRDY (out), 6 SCLK (in), 7 GND (power), 8 VREF (in)

## ADS1298xPAG
designator *  value ADS1298xPAG
ki_keywords: 24bit ADC 8 Channels PGA SPI Biopotential; ki_description: ADS1298 Low-Power, 8-Channel, 24-Bit Analog Front-End for Biopotential Measurements, TQFP-64; ki_fp_filters: TQFP*10x10mm*P0.5mm*; Footprint: Package_QFP:TQFP-64_10x10mm_P0.5mm; Supplier: http://www.ti.com/lit/ds/symlink/ads1298.pdf
footprint TQFP-64_10x10mm_P0.5mm
pins: 1 IN8N (in), 2 IN8P (in), 3 IN7P (in), 4 IN7N (in), 5 IN6N (in), 6 IN6P (in), 7 IN5N (in), 8 IN5P (in), 9 IN4N (in), 10 IN4P (in), 11 IN3N (in), 12 IN3P (in), 13 IN2N (in), 14 IN2P (in), 15 IN1N (in), 16 IN1P (in), 17 TESTP_PACE_OUT1 (io), 18 TESTP_PACE_OUT2 (io), 19 AVDD (power), 20 AVSS (power), 21 AVDD hidden, 22 AVDD hidden, 23 AVSS hidden, 24 VREFP, 25 VREFN, 26 VCAP4, 27 NC (in) hidden, 28 VCAP1, 29 NC (in) hidden, 30 VCAP2, 31 RESV1 (in), 32 AVSS hidden, 33 DGND (power), 34 DIN (in), 35 ~{{PWDN}} (in), 36 ~{{RESET}} (in), 37 CLK (io), 38 START (in), 39 ~{{CS}} (in), 40 SCLK (in), 41 DAISY_IN (in), 42 GPIO1 (io), 43 DOUT (out), 44 GPIO2 (io), 45 GPIO3 (io), 46 GPIO4 (io), 47 ~{{DRDY}} (out), 48 DVDD (power), 49 DGND hidden, 50 DVDD hidden, 51 DGND hidden, 52 CLKSEL (in), 53 AVSS1 (power), 54 AVDD1 (power), 55 VCAP3, 56 AVDD hidden, 57 AVSS hidden, 58 AVSS hidden, 59 AVDD hidden, 60 RLDREF (in), 61 RLDINV (in), 62 RLDIN (in), 63 RLDOUT (out), 64 WCT (out)

## ADS7029
designator *  value ADS7029
ki_keywords: 8 bit SAR ADC; ki_description: Small-Size, Low-Power, 8-Bit, 2-MSPS, SAR ADC; ki_fp_filters: VSSOP*8*2.3x2mm*P0.5mm*; Footprint: Package_SO:VSSOP-8_2.3x2mm_P0.5mm; Supplier: http://www.ti.com/lit/ds/symlink/ads7029-q1.pdf
footprint VSSOP-8_2.3x2mm_P0.5mm
pins: 1 DVDD (power), 2 SCLK (in), 3 SDO (out), 4 ~{{CS}} (in), 5 AINM (in), 6 AINP (in), 7 AVDD (power), 8 GND (power)

## ADS7039
designator *  value ADS7039
ki_keywords: 10 bit SAR ADC; ki_description: Small-Size, Low-Power, 10-Bit, 2-MSPS, SAR ADC; ki_fp_filters: VSSOP*8*2.3x2mm*P0.5mm*; Footprint: Package_SO:VSSOP-8_2.3x2mm_P0.5mm; Supplier: http://www.ti.com/lit/ds/symlink/ads7039-q1.pdf
footprint VSSOP-8_2.3x2mm_P0.5mm
pins: 1 DVDD (power), 2 SCLK (in), 3 SDO (out), 4 ~{{CS}} (in), 5 AINM (in), 6 AINP (in), 7 AVDD (power), 8 GND (power)

## ADS7040xDCU
designator *  value ADS7040xDCU
ki_keywords: 8 bit SAR ADC; ki_description: Ultra-Low Power, Ultra-Small Size, 8-Bit, 1-MSPS, SAR ADC; ki_fp_filters: VSSOP*8*2.3x2mm*P0.5mm*; Footprint: Package_SO:VSSOP-8_2.3x2mm_P0.5mm; Supplier: http://www.ti.com/lit/ds/symlink/ads7040.pdf
footprint VSSOP-8_2.3x2mm_P0.5mm
pins: 1 DVDD (power), 2 SCLK (in), 3 SDO (out), 4 ~{{CS}} (in), 5 AINM (in), 6 AINP (in), 7 AVDD (power), 8 GND (power)

## ADS7041xDCU
designator *  value ADS7041xDCU
ki_keywords: 10 bit SAR ADC; ki_description: Ultra-Low Power, Ultra-Small Size, 10-Bit, 1-MSPS, SAR ADC; ki_fp_filters: VSSOP*8*2.3x2mm*P0.5mm*; Footprint: Package_SO:VSSOP-8_2.3x2mm_P0.5mm; Supplier: http://www.ti.com/lit/ds/symlink/ads7041.pdf
footprint VSSOP-8_2.3x2mm_P0.5mm
pins: 1 DVDD (power), 2 SCLK (in), 3 SDO (out), 4 ~{{CS}} (in), 5 AINM (in), 6 AINP (in), 7 AVDD (power), 8 GND (power)

## ADS7042xDCU
designator *  value ADS7042xDCU
ki_keywords: 12 bit SAR ADC; ki_description: Ultra-Low Power, Ultra-Small Size, 12-Bit, 1-MSPS, SAR ADC; ki_fp_filters: VSSOP*8*2.3x2mm*P0.5mm*; Footprint: Package_SO:VSSOP-8_2.3x2mm_P0.5mm; Supplier: http://www.ti.com/lit/ds/symlink/ads7042.pdf
footprint VSSOP-8_2.3x2mm_P0.5mm
pins: 1 DVDD (power), 2 SCLK (in), 3 SDO (out), 4 ~{{CS}} (in), 5 AINM (in), 6 AINP (in), 7 AVDD (power), 8 GND (power)

## ADS7043xDCU
designator *  value ADS7043xDCU
ki_keywords: 12 bit SAR ADC; ki_description: Ultra-Low Power, Ultra-Small Size, 12-Bit, 1-MSPS, SAR ADC; ki_fp_filters: VSSOP*8*2.3x2mm*P0.5mm*; Footprint: Package_SO:VSSOP-8_2.3x2mm_P0.5mm; Supplier: http://www.ti.com/lit/ds/symlink/ads7043.pdf
footprint VSSOP-8_2.3x2mm_P0.5mm
pins: 1 DVDD (power), 2 SCLK (in), 3 SDO (out), 4 ~{{CS}} (in), 5 AINM (in), 6 AINP (in), 7 AVDD (power), 8 GND (power)

## ADS7044xDCU
designator *  value ADS7044xDCU
ki_keywords: 12 bit SAR ADC; ki_description: Ultra-Low Power, Ultra-Small Size, 12-Bit, 1-MSPS, SAR ADC; ki_fp_filters: VSSOP*8*2.3x2mm*P0.5mm*; Footprint: Package_SO:VSSOP-8_2.3x2mm_P0.5mm; Supplier: http://www.ti.com/lit/ds/symlink/ads7044.pdf
footprint VSSOP-8_2.3x2mm_P0.5mm
pins: 1 DVDD (power), 2 SCLK (in), 3 SDO (out), 4 ~{{CS}} (in), 5 AINM (in), 6 AINP (in), 7 AVDD (power), 8 GND (power)

## ADS7049
designator *  value ADS7049
ki_keywords: 12 bit SAR ADC; ki_description: Small-Size, Low-Power, 12-Bit, 2-MSPS, SAR ADC; ki_fp_filters: VSSOP*8*2.3x2mm*P0.5mm*; Footprint: Package_SO:VSSOP-8_2.3x2mm_P0.5mm; Supplier: http://www.ti.com/lit/ds/symlink/ads7049-q1.pdf
footprint VSSOP-8_2.3x2mm_P0.5mm
pins: 1 DVDD (power), 2 SCLK (in), 3 SDO (out), 4 ~{{CS}} (in), 5 AINM (in), 6 AINP (in), 7 AVDD (power), 8 GND (power)

## ADS7828
designator *  value ADS7828
ki_keywords: I2C ADC 12Bits; ki_description: 12-Bits, 8-Channels, ADC, I2C, TSSOP-16; ki_fp_filters: TSSOP*4.4x5mm*P0.65mm*; Footprint: Package_SO:TSSOP-16_4.4x5mm_P0.65mm; Supplier: http://www.ti.com/lit/ds/symlink/ads7828.pdf
footprint TSSOP-16_4.4x5mm_P0.65mm
pins: 1 CH0 (in), 2 CH1 (in), 3 CH2 (in), 4 CH3 (in), 5 CH4 (in), 6 CH5 (in), 7 CH6 (in), 8 CH7 (in), 9 GND (power), 10 REF (io), 11 COM (in), 12 A0 (in), 13 A1 (in), 14 SCL (in), 15 SDA (io), 16 VDD (power)

## ADS7866
designator *  value ADS7866
ki_keywords: ADC; ki_description: Single Channel 12-bit ADC,  100-200ksps, SPI, micro-power, SOT-23-6; ki_fp_filters: *SOT?23?6*; Footprint: Package_TO_SOT_SMD:TSOT-23-6; Supplier: http://www.ti.com/lit/ds/symlink/ads7866.pdf
footprint TSOT-23-6
pins: 1 VDD (power), 2 GND (power), 3 AIN (in), 4 SCLK (in), 5 SDO (hiz), 6 ~{{CS}} (in)

## ADS7867
designator *  value ADS7867
ki_keywords: ADC; ki_description: Single Channel 10-bit ADC,  100-200ksps, SPI, micro-power, SOT-23-6; ki_fp_filters: *SOT?23?6*; Footprint: Package_TO_SOT_SMD:TSOT-23-6; Supplier: http://www.ti.com/lit/ds/symlink/ads7866.pdf
footprint TSOT-23-6
pins: 1 VDD (power), 2 GND (power), 3 AIN (in), 4 SCLK (in), 5 SDO (hiz), 6 ~{{CS}} (in)

## ADS7868
designator *  value ADS7868
ki_keywords: ADC; ki_description: Single Channel 8-bit ADC,  100-200ksps, SPI, micro-power, SOT-23-6; ki_fp_filters: *SOT?23?6*; Footprint: Package_TO_SOT_SMD:TSOT-23-6; Supplier: http://www.ti.com/lit/ds/symlink/ads7866.pdf
footprint TSOT-23-6
pins: 1 VDD (power), 2 GND (power), 3 AIN (in), 4 SCLK (in), 5 SDO (hiz), 6 ~{{CS}} (in)

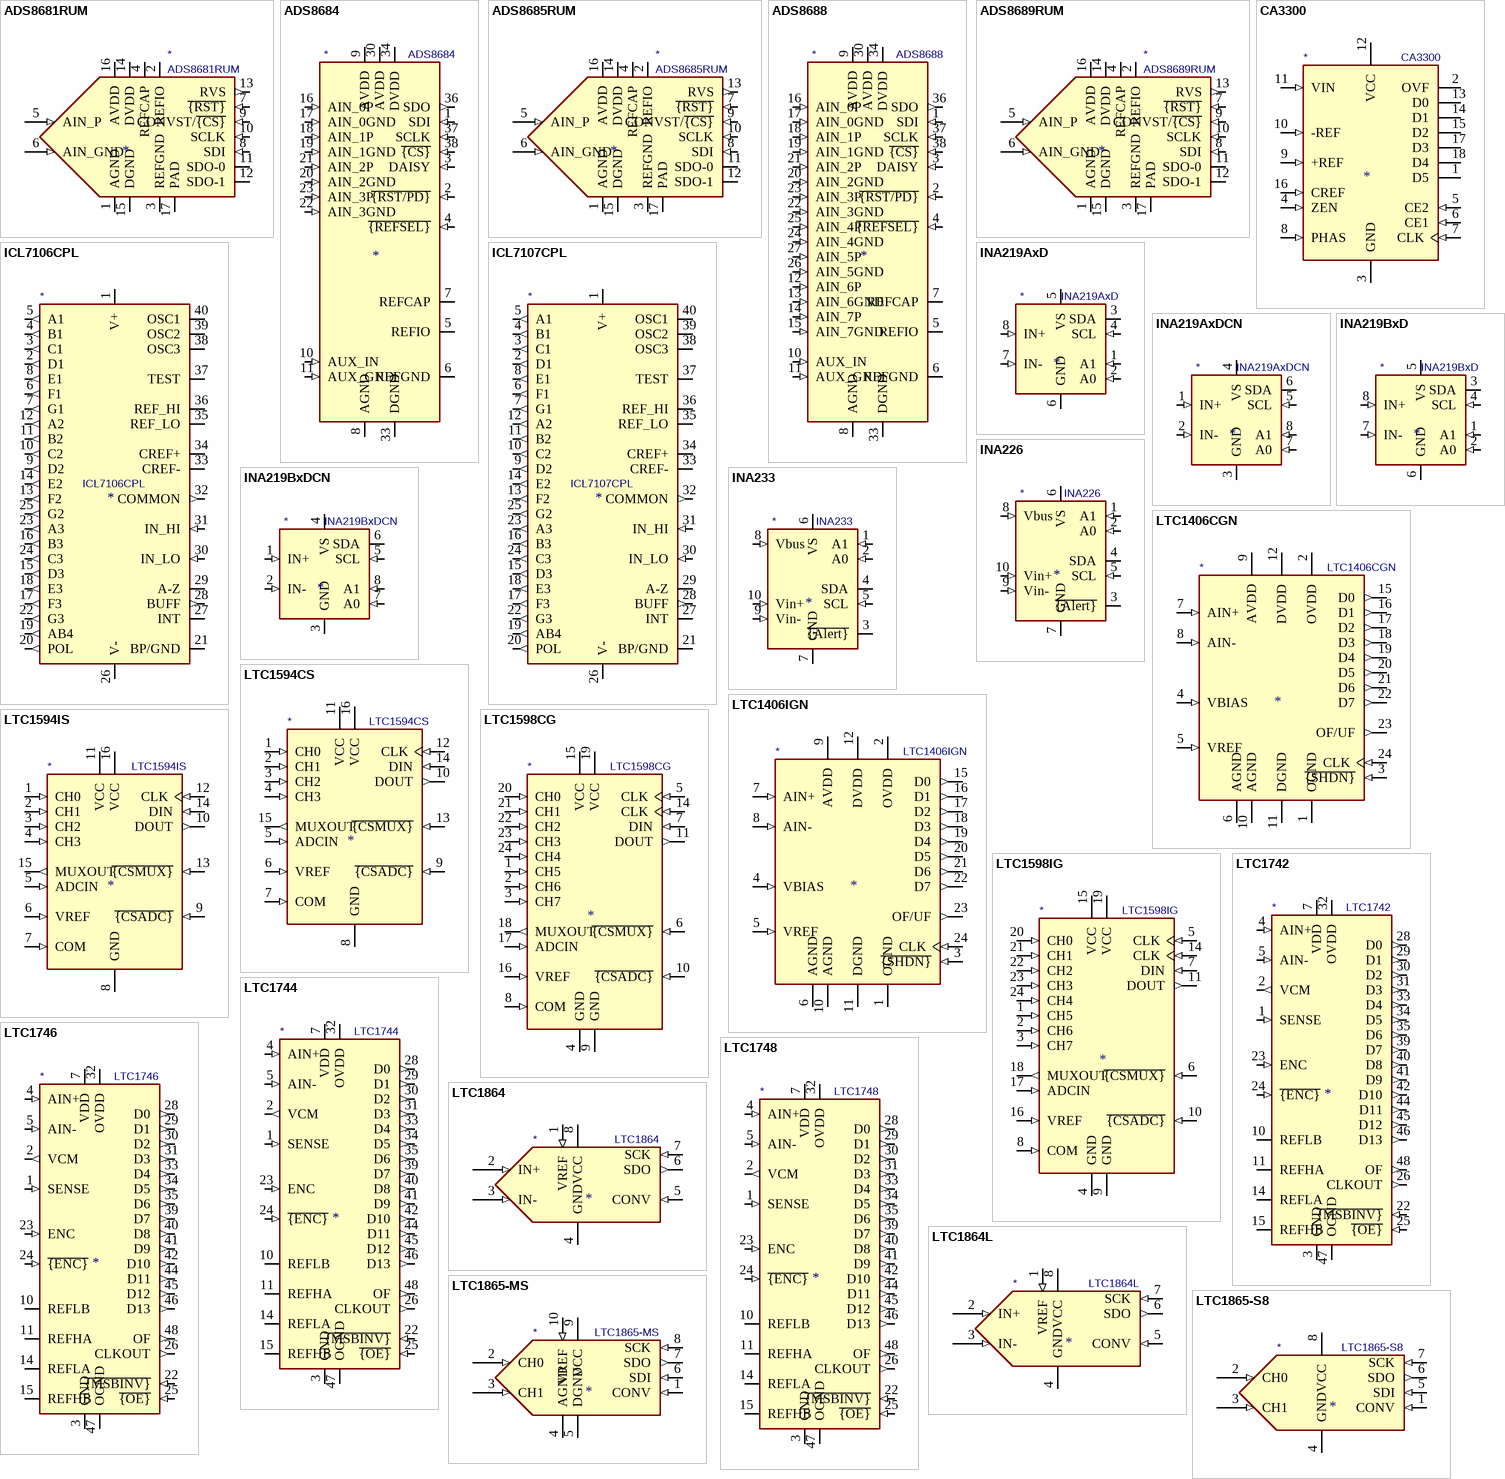
[diagram p2: symbols ADS8681RUM to LTC1865-S8]

## ADS8681RUM
designator *  value ADS8681RUM
ki_keywords: ADC SPI analog digital; ki_description: 16-Bit, High-Speed, Single-Supply, SAR ADC Data Acquisition System with Programmable, Bipolar Input Ranges, 1MSPS, QFN-16; ki_fp_filters: QFN*1EP*4x4mm*P0.65mm*EP2.7x2.7mm*; Footprint: Package_DFN_QFN:QFN-16-1EP_4x4mm_P0.65mm_EP2.7x2.7mm; Supplier: http://www.ti.com/lit/ds/symlink/ads8681.pdf
footprint QFN-16-1EP_4x4mm_P0.65mm_EP2.7x2.7mm
pins: 1 AGND (power), 2 REFIO, 3 REFGND (power), 4 REFCAP (power), 5 AIN_P (in), 6 AIN_GND (in), 7 ~{{RST}} (in), 8 SDI (in), 9 CONVST/~{{CS}} (in), 10 SCLK (in), 11 SDO-0 (hiz), 12 SDO-1 (hiz), 13 RVS (out), 14 DVDD (power), 15 DGND (power), 16 AVDD (power), 17 PAD (power)

## ADS8684
designator *  value ADS8684
ki_keywords: adc analog digital spi bipolar input; ki_description: 16-Bit, 500-kSPS, 4-Channels, Single-Supply, SAR ADC with Bipolar Input Range, TSSOP-38; ki_fp_filters: TSSOP*4.4x9.7mm*P0.5mm*; Footprint: Package_SO:TSSOP-38_4.4x9.7mm_P0.5mm; Supplier: http://www.ti.com/lit/ds/symlink/ads8688.pdf
footprint TSSOP-38_4.4x9.7mm_P0.5mm
pins: 1 SDI (in), 2 ~{{RST/PD}} (in), 3 DAISY (in), 4 ~{{REFSEL}} (in), 5 REFIO, 6 REFGND (power), 7 REFCAP, 8 AGND (power), 9 AVDD (power), 10 AUX_IN (in), 11 AUX_GND (in), 12 NC (in) hidden, 13 NC (in) hidden, 14 NC (in) hidden, 15 NC (in) hidden, 16 AIN_0P (in), 17 AIN_0GND (in), 18 AIN_1P (in), 19 AIN_1GND (in), 20 AIN_2GND (in), 21 AIN_2P (in), 22 AIN_3GND (in), 23 AIN_3P (in), 24 NC (in) hidden, 25 NC (in) hidden, 26 NC (in) hidden, 27 NC (in) hidden, 28 AGND hidden, 29 AGND hidden, 30 AVDD (power), 31 AGND hidden, 32 AGND hidden, 33 DGND (power), 34 DVDD (power), 35 DNC (in) hidden, 36 SDO (out), 37 SCLK (in), 38 ~{{CS}} (in)

## ADS8685RUM
designator *  value ADS8685RUM
ki_keywords: ADC SPI analog digital; ki_description: 16-Bit, High-Speed, Single-Supply, SAR ADC Data Acquisition System with Programmable, Bipolar Input Ranges 500KSPS, QFN-16; ki_fp_filters: QFN*1EP*4x4mm*P0.65mm*EP2.7x2.7mm*; Footprint: Package_DFN_QFN:QFN-16-1EP_4x4mm_P0.65mm_EP2.7x2.7mm; Supplier: http://www.ti.com/lit/ds/symlink/ads8681.pdf
footprint QFN-16-1EP_4x4mm_P0.65mm_EP2.7x2.7mm
pins: 1 AGND (power), 2 REFIO, 3 REFGND (power), 4 REFCAP (power), 5 AIN_P (in), 6 AIN_GND (in), 7 ~{{RST}} (in), 8 SDI (in), 9 CONVST/~{{CS}} (in), 10 SCLK (in), 11 SDO-0 (hiz), 12 SDO-1 (hiz), 13 RVS (out), 14 DVDD (power), 15 DGND (power), 16 AVDD (power), 17 PAD (power)

## ADS8688
designator *  value ADS8688
ki_keywords: adc analog digital spi bipolar input; ki_description: 16-Bit, 500-kSPS, 8-Channels, Single-Supply, SAR ADC with Bipolar Input Range, TSSOP-38; ki_fp_filters: TSSOP*4.4x9.7mm*P0.5mm*; Footprint: Package_SO:TSSOP-38_4.4x9.7mm_P0.5mm; Supplier: http://www.ti.com/lit/ds/symlink/ads8688.pdf
footprint TSSOP-38_4.4x9.7mm_P0.5mm
pins: 1 SDI (in), 2 ~{{RST/PD}} (in), 3 DAISY (in), 4 ~{{REFSEL}} (in), 5 REFIO, 6 REFGND (power), 7 REFCAP, 8 AGND (power), 9 AVDD (power), 10 AUX_IN (in), 11 AUX_GND (in), 12 AIN_6P (in), 13 AIN_6GND (in), 14 AIN_7P (in), 15 AIN_7GND (in), 16 AIN_0P (in), 17 AIN_0GND (in), 18 AIN_1P (in), 19 AIN_1GND (in), 20 AIN_2GND (in), 21 AIN_2P (in), 22 AIN_3GND (in), 23 AIN_3P (in), 24 AIN_4GND (in), 25 AIN_4P (in), 26 AIN_5GND (in), 27 AIN_5P (in), 28 AGND hidden, 29 AGND hidden, 30 AVDD (power), 31 AGND hidden, 32 AGND hidden, 33 DGND (power), 34 DVDD (power), 35 DNC (in) hidden, 36 SDO (out), 37 SCLK (in), 38 ~{{CS}} (in)

## ADS8689RUM
designator *  value ADS8689RUM
ki_keywords: ADC SPI analog digital; ki_description: 16-Bit, High-Speed, Single-Supply, SAR ADC Data Acquisition System with Programmable, Bipolar Input Ranges, 100KSPS, QFN-16; ki_fp_filters: QFN*1EP*4x4mm*P0.65mm*EP2.7x2.7mm*; Footprint: Package_DFN_QFN:QFN-16-1EP_4x4mm_P0.65mm_EP2.7x2.7mm; Supplier: http://www.ti.com/lit/ds/symlink/ads8681.pdf
footprint QFN-16-1EP_4x4mm_P0.65mm_EP2.7x2.7mm
pins: 1 AGND (power), 2 REFIO, 3 REFGND (power), 4 REFCAP (power), 5 AIN_P (in), 6 AIN_GND (in), 7 ~{{RST}} (in), 8 SDI (in), 9 CONVST/~{{CS}} (in), 10 SCLK (in), 11 SDO-0 (hiz), 12 SDO-1 (hiz), 13 RVS (out), 14 DVDD (power), 15 DGND (power), 16 AVDD (power), 17 PAD (power)

## CA3300
designator *  value CA3300
ki_keywords: ADC CAN; ki_description: Convertisseur A->D 6 bits rapide
pins: 1 D5 (hiz), 2 OVF (hiz), 3 GND (power), 4 ZEN (in), 5 CE2 (in), 6 CE1 (in), 7 CLK (in), 8 PHAS (in), 9 +REF (in), 10 -REF (in), 11 VIN (in), 12 VCC (power), 13 D0 (hiz), 14 D1 (hiz), 15 D2 (hiz), 16 CREF (in), 17 D3 (hiz), 18 D4 (hiz)

## ICL7106CPL
designator *  value ICL7106CPL
ki_keywords: LCD ADC; ki_description: 3 1/2 Digit, LCD Display, A/D Converter, DIP-40; ki_fp_filters: DIP*W15.24*; Footprint: Package_DIP:DIP-40_W15.24mm; Supplier: https://www.renesas.com/eu/en/www/doc/datasheet/icl7106-07-07s.pdf
footprint DIP-40_W15.24mm
pins: 1 V+ (power), 2 D1 (out), 3 C1 (out), 4 B1 (out), 5 A1 (out), 6 F1 (out), 7 G1 (out), 8 E1 (out), 9 D2 (out), 10 C2 (out), 11 B2 (out), 12 A2 (out), 13 F2 (out), 14 E2 (out), 15 D3 (out), 16 B3 (out), 17 F3 (out), 18 E3 (out), 19 AB4 (out), 20 POL (out), 21 BP/GND (io), 22 G3 (out), 23 A3 (out), 24 C3 (out), 25 G2 (out), 26 V- (power), 27 INT, 28 BUFF (out), 29 A-Z, 30 IN_LO (in), 31 IN_HI (in), 32 COMMON (out), 33 CREF-, 34 CREF+, 35 REF_LO, 36 REF_HI, 37 TEST, 38 OSC3, 39 OSC2, 40 OSC1

## ICL7107CPL
designator *  value ICL7107CPL
ki_keywords: LED ADC; ki_description: 3 1/2 Digit, LED Display, A/D Converter, DIP-40; ki_fp_filters: DIP*W15.24*; Footprint: Package_DIP:DIP-40_W15.24mm; Supplier: https://www.renesas.com/eu/en/www/doc/datasheet/icl7106-07-07s.pdf
footprint DIP-40_W15.24mm
pins: 1 V+ (power), 2 D1 (out), 3 C1 (out), 4 B1 (out), 5 A1 (out), 6 F1 (out), 7 G1 (out), 8 E1 (out), 9 D2 (out), 10 C2 (out), 11 B2 (out), 12 A2 (out), 13 F2 (out), 14 E2 (out), 15 D3 (out), 16 B3 (out), 17 F3 (out), 18 E3 (out), 19 AB4 (out), 20 POL (out), 21 BP/GND (io), 22 G3 (out), 23 A3 (out), 24 C3 (out), 25 G2 (out), 26 V- (power), 27 INT, 28 BUFF (out), 29 A-Z, 30 IN_LO (in), 31 IN_HI (in), 32 COMMON (out), 33 CREF-, 34 CREF+, 35 REF_LO, 36 REF_HI, 37 TEST, 38 OSC3, 39 OSC2, 40 OSC1

## INA219AxD
designator *  value INA219AxD
ki_keywords: ADC I2C 16-Bit Oversampling Current Shunt; ki_description: Zero-Drift, Bidirectional Current/Power Monitor (0-26V) With I2C Interface, SOIC-8; ki_fp_filters: SOIC*3.9x4.9mm*P1.27mm*; Footprint: Package_SO:SOIC-8_3.9x4.9mm_P1.27mm; Supplier: http://www.ti.com/lit/ds/symlink/ina219.pdf
footprint SOIC-8_3.9x4.9mm_P1.27mm
pins: 1 A1 (in), 2 A0 (in), 3 SDA (io), 4 SCL (in), 5 VS (power), 6 GND (power), 7 IN- (in), 8 IN+ (in)

## INA219AxDCN
designator *  value INA219AxDCN
ki_keywords: ADC I2C 16-Bit Oversampling Current Shunt; ki_description: Zero-Drift, Bidirectional Current/Power Monitor (0-26V) With I2C Interface, SOT-23-8; ki_fp_filters: SOT?23*; Footprint: Package_TO_SOT_SMD:SOT-23-8; Supplier: http://www.ti.com/lit/ds/symlink/ina219.pdf
footprint SOT-23-8
pins: 1 IN+ (in), 2 IN- (in), 3 GND (power), 4 VS (power), 5 SCL (in), 6 SDA (io), 7 A0 (in), 8 A1 (in)

## INA219BxD
designator *  value INA219BxD
ki_keywords: ADC I2C 16-Bit Oversampling Current Shunt; ki_description: Zero-Drift, HighAccuracy, Bidirectional Current/Power Monitor (0-26V) With I2C Interface, SOIC-8; ki_fp_filters: SOIC*3.9x4.9mm*P1.27mm*; Footprint: Package_SO:SOIC-8_3.9x4.9mm_P1.27mm; Supplier: http://www.ti.com/lit/ds/symlink/ina219.pdf
footprint SOIC-8_3.9x4.9mm_P1.27mm
pins: 1 A1 (in), 2 A0 (in), 3 SDA (io), 4 SCL (in), 5 VS (power), 6 GND (power), 7 IN- (in), 8 IN+ (in)

## INA219BxDCN
designator *  value INA219BxDCN
ki_keywords: ADC I2C 16-Bit Oversampling Current Shunt; ki_description: Zero-Drift, HighAccuracy, Bidirectional Current/Power Monitor (0-26V) With I2C Interface, SOT-23-8; ki_fp_filters: SOT?23*; Footprint: Package_TO_SOT_SMD:SOT-23-8; Supplier: http://www.ti.com/lit/ds/symlink/ina219.pdf
footprint SOT-23-8
pins: 1 IN+ (in), 2 IN- (in), 3 GND (power), 4 VS (power), 5 SCL (in), 6 SDA (io), 7 A0 (in), 8 A1 (in)

## INA226
designator *  value INA226
ki_keywords: ADC I2C 16-Bit Oversampling Current Shunt; ki_description: High-Side or Low-Side Measurement, Bi-Directional Current and Power Monitor (0-36V) with I2C Compatible Interface, VSSOP-10; ki_fp_filters: VSSOP*3x3mm*P0.5mm*; Footprint: Package_SO:VSSOP-10_3x3mm_P0.5mm; Supplier: http://www.ti.com/lit/ds/symlink/ina226.pdf
footprint VSSOP-10_3x3mm_P0.5mm
pins: 1 A1 (in), 2 A0 (in), 3 ~{{Alert}} (oc), 4 SDA (io), 5 SCL (in), 6 VS (power), 7 GND (power), 8 Vbus (in), 9 Vin- (in), 10 Vin+ (in)

## INA233
designator *  value INA233
ki_keywords: ADC I2C 16-Bit Oversampling Current Shunt; ki_description: High-Side or Low-Side Measurement, Bi-Directional Current and Power Monitor (0-36V) with I2C, SMBus-, and PMBus-Compatible Interface, VSSOP-10; ki_fp_filters: VSSOP*3x3mm*P0.5mm*; Footprint: Package_SO:VSSOP-10_3x3mm_P0.5mm; Supplier: https://www.ti.com/lit/ds/symlink/ina233.pdf
footprint VSSOP-10_3x3mm_P0.5mm
pins: 1 A1 (in), 2 A0 (in), 3 ~{{Alert}} (oc), 4 SDA (io), 5 SCL (in), 6 VS (power), 7 GND (power), 8 Vbus (in), 9 Vin- (in), 10 Vin+ (in)

## LTC1406CGN
designator *  value LTC1406CGN
ki_keywords: Low Power ADC 8bit 20Msps; ki_description: ADC 8bit Low Power 20Msps, SSOP-24; ki_fp_filters: SSOP*; Supplier: https://www.analog.com/media/en/technical-documentation/data-sheets/1406f.pdf
pins: 1 OGND (power), 2 OVDD (power), 3 ~{{SHDN}} (in), 4 VBIAS (in), 5 VREF (in), 6 AGND (power), 7 AIN+ (in), 8 AIN- (in), 9 AVDD (power), 10 AGND (power), 11 DGND (power), 12 DVDD (power), 13 NC (in) hidden, 14 NC (in) hidden, 15 D0 (out), 16 D1 (out), 17 D2 (out), 18 D3 (out), 19 D4 (out), 20 D5 (out), 21 D6 (out), 22 D7 (out), 23 OF/UF (out), 24 CLK (in)

## LTC1406IGN
designator *  value LTC1406IGN
ki_keywords: Low Power ADC 8bit 20Msps; ki_description: ADC 8bit Low Power 20Msps, SSOP-24; ki_fp_filters: SSOP*; Supplier: https://www.analog.com/media/en/technical-documentation/data-sheets/1406f.pdf
pins: 1 OGND (power), 2 OVDD (power), 3 ~{{SHDN}} (in), 4 VBIAS (in), 5 VREF (in), 6 AGND (power), 7 AIN+ (in), 8 AIN- (in), 9 AVDD (power), 10 AGND (power), 11 DGND (power), 12 DVDD (power), 13 NC (in) hidden, 14 NC (in) hidden, 15 D0 (out), 16 D1 (out), 17 D2 (out), 18 D3 (out), 19 D4 (out), 20 D5 (out), 21 D6 (out), 22 D7 (out), 23 OF/UF (out), 24 CLK (in)

## LTC1594CS
designator *  value LTC1594CS
ki_keywords: 12bit ADC 4 Channel; ki_description: Micropower 12-bit 4 Channel ADC, Serial IO, SOIC-16; ki_fp_filters: SO*; Supplier: https://www.analog.com/media/en/technical-documentation/data-sheets/15948fb.pdf
pins: 1 CH0 (in), 2 CH1 (in), 3 CH2 (in), 4 CH3 (in), 5 ADCIN (in), 6 VREF (in), 7 COM (in), 8 GND (power), 9 ~{{CSADC}} (in), 10 DOUT (out), 11 VCC (power), 12 CLK (in), 13 ~{{CSMUX}} (in), 14 DIN (in), 15 MUXOUT (out), 16 VCC (power)

## LTC1594IS
designator *  value LTC1594IS
ki_keywords: 12bit ADC 4 Channel; ki_description: Micropower 12-bit 4 Channel ADC, Serial IO, SO-16; ki_fp_filters: SO*; Supplier: https://www.analog.com/media/en/technical-documentation/data-sheets/15948fb.pdf
pins: 1 CH0 (in), 2 CH1 (in), 3 CH2 (in), 4 CH3 (in), 5 ADCIN (in), 6 VREF (in), 7 COM (in), 8 GND (power), 9 ~{{CSADC}} (in), 10 DOUT (out), 11 VCC (power), 12 CLK (in), 13 ~{{CSMUX}} (in), 14 DIN (in), 15 MUXOUT (out), 16 VCC (power)

## LTC1598CG
designator *  value LTC1598CG
ki_keywords: 12bit ADC 4 Channel; ki_description: Micropower 12-bit 8 Channel ADC, Serial IO, SSOP-24; ki_fp_filters: SSOP*; Supplier: https://www.analog.com/media/en/technical-documentation/data-sheets/15948fb.pdf
pins: 1 CH5 (in), 2 CH6 (in), 3 CH7 (in), 4 GND (power), 5 CLK (in), 6 ~{{CSMUX}} (in), 7 DIN (in), 8 COM (in), 9 GND (power), 10 ~{{CSADC}} (in), 11 DOUT (out), 12 NC (in) hidden, 13 NC (in) hidden, 14 CLK (in), 15 VCC (power), 16 VREF (in), 17 ADCIN (in), 18 MUXOUT (out), 19 VCC (power), 20 CH0 (in), 21 CH1 (in), 22 CH2 (in), 23 CH3 (in), 24 CH4 (in)

## LTC1598IG
designator *  value LTC1598IG
ki_keywords: 12bit ADC 4 Channel; ki_description: Micropower 12-bit 8 Channel ADC, Serial IO, SSOP-24; ki_fp_filters: SSOP*; Supplier: https://www.analog.com/media/en/technical-documentation/data-sheets/15948fb.pdf
pins: 1 CH5 (in), 2 CH6 (in), 3 CH7 (in), 4 GND (power), 5 CLK (in), 6 ~{{CSMUX}} (in), 7 DIN (in), 8 COM (in), 9 GND (power), 10 ~{{CSADC}} (in), 11 DOUT (out), 12 NC (in) hidden, 13 NC (in) hidden, 14 CLK (in), 15 VCC (power), 16 VREF (in), 17 ADCIN (in), 18 MUXOUT (out), 19 VCC (power), 20 CH0 (in), 21 CH1 (in), 22 CH2 (in), 23 CH3 (in), 24 CH4 (in)